# Altium footprint library PcbLib1.PcbLib: 74 footprints (part 2 of 5)
Each footprint in its own frame and in the unit in brackets; x right, y up, seen from the top. Pads: shape width x height; smd on the part's side, far side on the other; paste and mask are expansions set on the pad; w line width, h text height; cw(c..) or ccw(c..) is an arc to the next point about the centre after c.
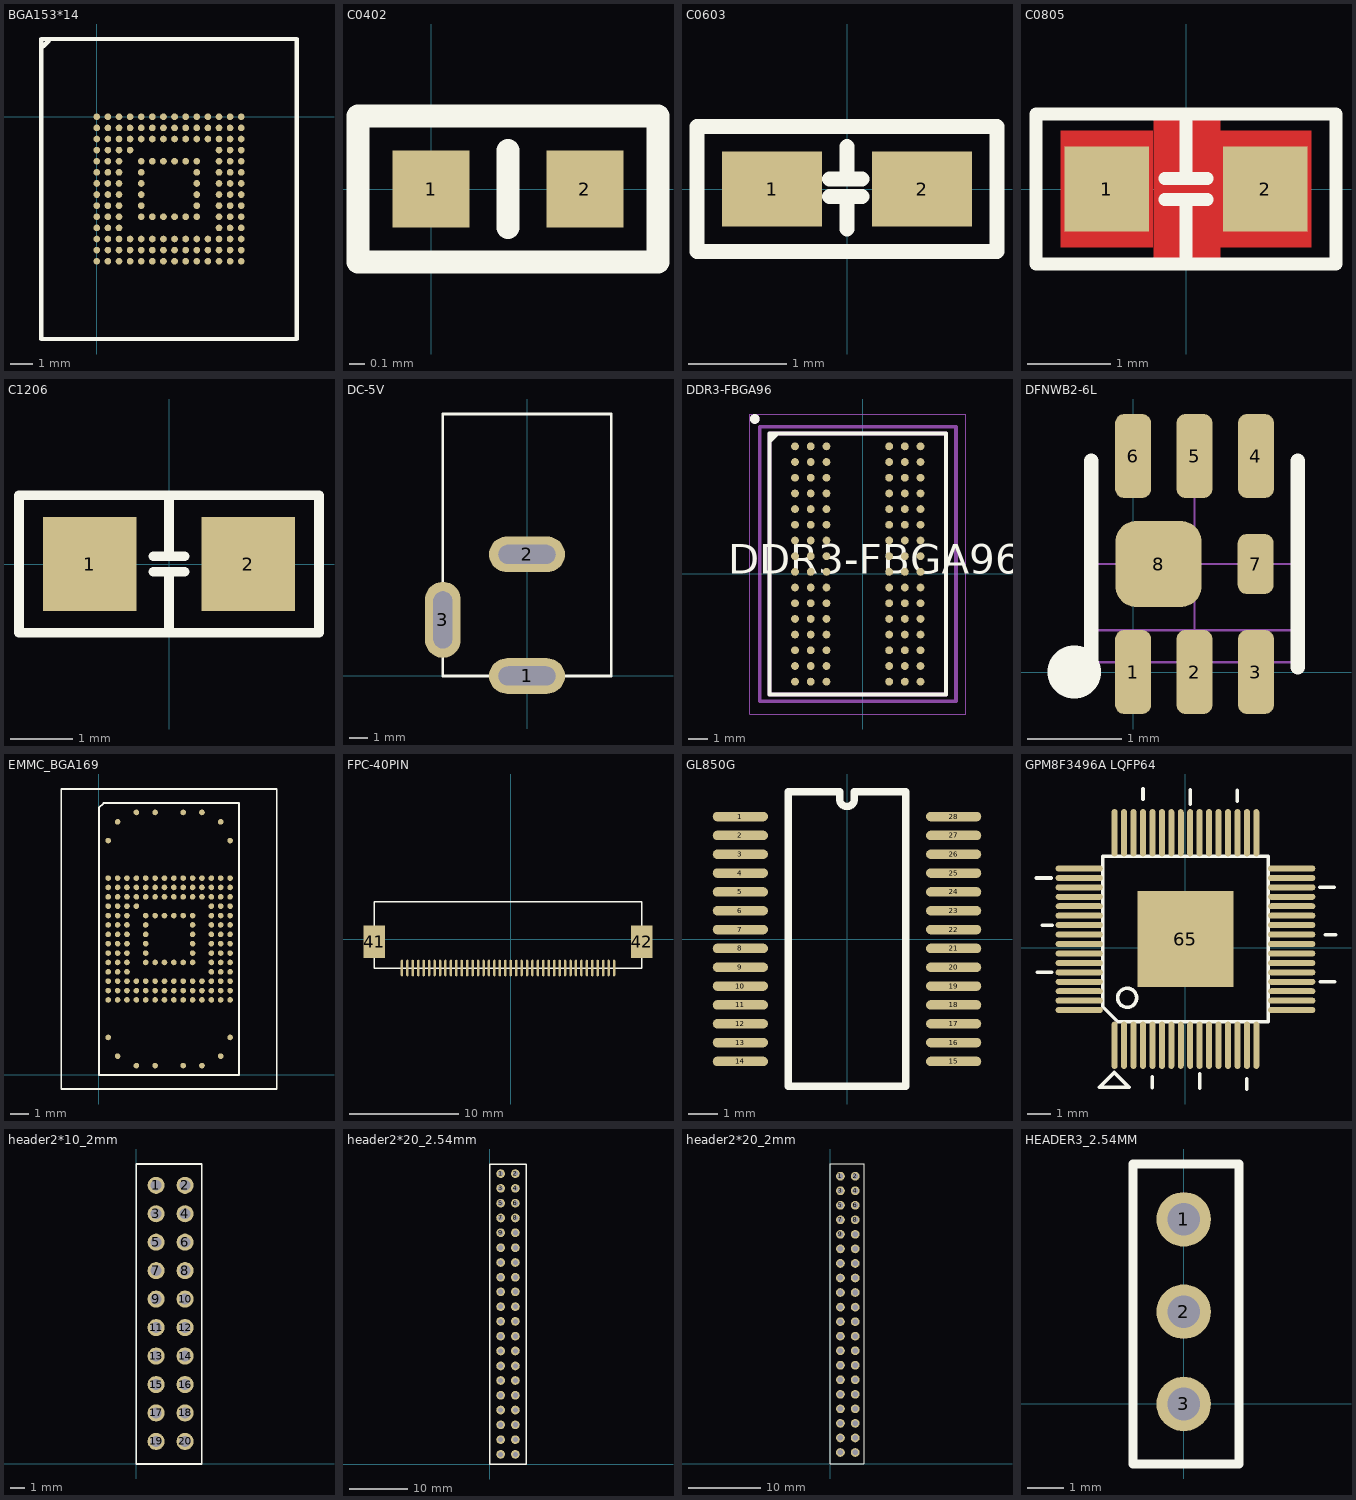
[diagram p1: the footprints below, top view; thin cyan lines are the x and y axes]

## BGA153*14 [mm]
pads (153):
  round 0.3 smd: A1(0,0) A2(0.5,0) A3(1,0) A4(1.5,0) A5(2,0) A6(2.5,0) A7(3,0) A8(3.5,0) A9(4,0) A10(4.5,0) A11(5,0) A12(5.5,0) A13(6,0) A14(6.5,0) B1(0,-0.5) B2(0.5,-0.5) B3(1,-0.5) B4(1.5,-0.5) B5(2,-0.5) B6(2.5,-0.5) B7(3,-0.5) B8(3.5,-0.5) B9(4,-0.5) B10(4.5,-0.5) B11(5,-0.5) B12(5.5,-0.5) B13(6,-0.5) B14(6.5,-0.5) C1(0,-1) C2(0.5,-1) C3(1,-1) C4(1.5,-1) C5(2,-1) C6(2.5,-1) C7(3,-1) C8(3.5,-1) C9(4,-1) C10(4.5,-1) C11(5,-1) C12(5.5,-1) C13(6,-1) C14(6.5,-1) D1(0,-1.5) D2(0.5,-1.5) D3(1,-1.5) D4(1.5,-1.5) D12(5.5,-1.5) D13(6,-1.5) D14(6.5,-1.5) E1(0,-2) E2(0.5,-2) E3(1,-2) E5(2,-2) E6(2.5,-2) E7(3,-2) E8(3.5,-2) E9(4,-2) E10(4.5,-2) E12(5.5,-2) E13(6,-2) E14(6.5,-2) F1(0,-2.5) F2(0.5,-2.5) F3(1,-2.5) F5(2,-2.5) F10(4.5,-2.5) F12(5.5,-2.5) F13(6,-2.5) F14(6.5,-2.5) G1(0,-3) G2(0.5,-3) G3(1,-3) G5(2,-3) G10(4.5,-3) G12(5.5,-3) G13(6,-3) G14(6.5,-3) H1(0,-3.5) H2(0.5,-3.5) H3(1,-3.5) H5(2,-3.5) H10(4.5,-3.5) H12(5.5,-3.5) H13(6,-3.5) H14(6.5,-3.5) J1(0,-4) J2(0.5,-4) J3(1,-4) J5(2,-4) J10(4.5,-4) J12(5.5,-4) J13(6,-4) J14(6.5,-4) K1(0,-4.5) K2(0.5,-4.5) K3(1,-4.5) K5(2,-4.5) K6(2.5,-4.5) K7(3,-4.5) K8(3.5,-4.5) K9(4,-4.5) K10(4.5,-4.5) K12(5.5,-4.5) K13(6,-4.5) K14(6.5,-4.5) L1(0,-5) L2(0.5,-5) L3(1,-5) L12(5.5,-5) L13(6,-5) L14(6.5,-5) M1(0,-5.5) M2(0.5,-5.5) M3(1,-5.5) M4(1.5,-5.5) M5(2,-5.5) M6(2.5,-5.5) M7(3,-5.5) M8(3.5,-5.5) M9(4,-5.5) M10(4.5,-5.5) M11(5,-5.5) M12(5.5,-5.5) M13(6,-5.5) M14(6.5,-5.5) N1(0,-6) N2(0.5,-6) N3(1,-6) N4(1.5,-6) N5(2,-6) N6(2.5,-6) N7(3,-6) N8(3.5,-6) N9(4,-6) N10(4.5,-6) N11(5,-6) N12(5.5,-6) N13(6,-6) N14(6.5,-6) P1(0,-6.5) P2(0.5,-6.5) P3(1,-6.5) P4(1.5,-6.5) P5(2,-6.5) P6(2.5,-6.5) P7(3,-6.5) P8(3.5,-6.5) P9(4,-6.5) P10(4.5,-6.5) P11(5,-6.5) P12(5.5,-6.5) P13(6,-6.5) P14(6.5,-6.5)
Top Overlay:
  lines w0.2: -2.5,-10 -2.5,3.5 ; -2.5,-10 9,-10 9,3.5 -2.5,3.5 ; -2.413,3.175 -2.163,3.425

## C0402 [mil] "CAP"
pads (2):
  rect 20x20 smd: 1(0,0) 2(40,0)
Top Overlay:
  lines w6: 20,-10 20,10 ; -19,-19 59,-19 59,19 -19,19 -19,-19

## C0603 [mil]
pads (2):
  rect 40x30 smd: 1(-30,0) 2(30,0)
Top Overlay:
  lines w6: -7,-3 6,-3 ; -7,4 6,4 ; 0,-16 0,-3 ; 0,4 0,17 ; -60,-25 60,-25 60,25 -60,25 -60,-25

## C0805 [mil]
pads (2):
  rect 40x40 smd: 1(-37.4,0) 2(37.4,0)
Top Layer:
  region: -59.06,27.56 -15.75,27.56 -15.75,-27.56 -59.06,-27.56
  region: 59.06,-27.56 15.75,-27.56 15.75,27.56 59.06,27.56
  pour cut-out: -15.35,34.65 -15.35,-33.46 16.14,-33.46 16.14,34.65
Top Overlay:
  lines w6: -10,-5 10,-5 ; -10,5 10,5 ; 0,-35 0,-5 ; 0,5 0,35 ; -70.87,-35.43 70.87,-35.43 70.87,35.43 -70.87,35.43 -70.87,-35.43

## C1206 [mil]
pads (2):
  rect 59x59 smd: 1(-50,0) 2(50,0)
Top Overlay:
  lines w6: -10,-5 10,-5 ; -10,5 10,5 ; 0,-40 0,-5 ; 0,5 0,40 ; -94.49,-43.31 94.49,-43.31 94.49,43.31 -94.49,43.31 -94.49,-43.31

## DC-5V [mil]
pads (3):
  oval 160x75 hole 40 slot 120 at 0 deg: 1(0,0) 2(0,255.91)
  oval 75x160 hole 40 slot 120 at 90 deg: 3(-177.17,118.11)
Top Overlay:
  lines w6: -177.17,0 -177.17,551.18 177.17,551.18 177.17,0 -177.17,0

## DDR3-FBGA96 [mm]
pads (96):
  round 0.4 smd: A1(-3.454,6.508) A2(-2.654,6.508) A3(-1.854,6.508) A7(1.346,6.508) A8(2.146,6.508) A9(2.946,6.508) B1(-3.454,5.708) B2(-2.654,5.708) B3(-1.854,5.708) B7(1.346,5.708) B8(2.146,5.708) B9(2.946,5.708) C1(-3.454,4.908) C2(-2.654,4.908) C3(-1.854,4.908) C7(1.346,4.908) C8(2.146,4.908) C9(2.946,4.908) D1(-3.454,4.108) D2(-2.654,4.108) D3(-1.854,4.108) D7(1.346,4.108) D8(2.146,4.108) D9(2.946,4.108) E1(-3.454,3.308) E2(-2.654,3.308) E3(-1.854,3.308) E7(1.346,3.308) E8(2.146,3.308) E9(2.946,3.308) F1(-3.454,2.508) F2(-2.654,2.508) F3(-1.854,2.508) F7(1.346,2.508) F8(2.146,2.508) F9(2.946,2.508) G1(-3.454,1.708) G2(-2.654,1.708) G3(-1.854,1.708) G7(1.346,1.708) G8(2.146,1.708) G9(2.946,1.708) H1(-3.454,0.908) H2(-2.654,0.908) H3(-1.854,0.908) H7(1.346,0.908) H8(2.146,0.908) H9(2.946,0.908) J1(-3.454,0.108) J2(-2.654,0.108) J3(-1.854,0.108) J7(1.346,0.108) J8(2.146,0.108) J9(2.946,0.108) K1(-3.454,-0.692) K2(-2.654,-0.692) K3(-1.854,-0.692) K7(1.346,-0.692) K8(2.146,-0.692) K9(2.946,-0.692) L1(-3.454,-1.492) L2(-2.654,-1.492) L3(-1.854,-1.492) L7(1.346,-1.492) L8(2.146,-1.492) L9(2.946,-1.492) M1(-3.454,-2.292) M2(-2.654,-2.292) M3(-1.854,-2.292) M7(1.346,-2.292) M8(2.146,-2.292) M9(2.946,-2.292) N1(-3.454,-3.092) N2(-2.654,-3.092) N3(-1.854,-3.092) N7(1.346,-3.092) N8(2.146,-3.092) N9(2.946,-3.092) P1(-3.454,-3.892) P2(-2.654,-3.892) P3(-1.854,-3.892) P7(1.346,-3.892) P8(2.146,-3.892) P9(2.946,-3.892) R1(-3.454,-4.692) R2(-2.654,-4.692) R3(-1.854,-4.692) R7(1.346,-4.692) R8(2.146,-4.692) R9(2.946,-4.692) T1(-3.454,-5.492) T2(-2.654,-5.492) T3(-1.854,-5.492) T7(1.346,-5.492) T8(2.146,-5.492) T9(2.946,-5.492)
Top Overlay:
  circle w0.25: c-5.504,7.908 r0.125
  lines w0.2: -4.754,6.758 -4.354,7.158 ; -4.754,6.958 -4.554,7.158 ; -4.754,-6.142 -4.754,7.158 4.246,7.158 4.246,-6.142 -4.754,-6.142
  text "DDR3-FBGA96" at -6.854,0.008 h1.5
Mechanical 7:
  circle w0.25: c-5.504,7.908 r0.125
  lines w0.2: -4.754,6.758 -4.354,7.158 ; -4.754,6.958 -4.554,7.158 ; -4.754,-6.142 -4.754,7.158 4.246,7.158 4.246,-6.142 -4.754,-6.142
  text "DDR3-FBGA96" at -6.854,-7.842 h1.5
Mechanical 8:
  text "D8" at 1.826,3.908 h0.4
  text "A9" at 2.626,6.308 h0.4
  text "B9" at 2.626,5.508 h0.4
  text "B3" at -2.174,5.508 h0.4
  text "B1" at -3.774,5.508 h0.4
  text "D1" at -3.774,3.908 h0.4
  text "E2" at -2.974,3.108 h0.4
  text "E1" at -3.774,3.108 h0.4
  text "J8" at 1.826,-0.092 h0.4
  text "F9" at 2.626,2.308 h0.4
  text "G9" at 2.626,1.508 h0.4
  text "J2" at -2.974,-0.092 h0.4
  text "G8" at 1.826,1.508 h0.4
  text "E8" at 1.826,3.108 h0.4
  text "G1" at -3.774,1.508 h0.4
  text "M9" at 2.626,-2.492 h0.4
  text "P9" at 2.626,-4.092 h0.4
  text "T1" at -3.774,-5.692 h0.4
  text "P1" at -3.774,-4.092 h0.4
  text "M1" at -3.774,-2.492 h0.4
  text "T9" at 2.626,-5.692 h0.4
  text "A7" at 1.026,6.308 h0.4
  text "A2" at -2.974,6.308 h0.4
  text "C8" at 1.826,4.708 h0.4
  text "F8" at 1.826,2.308 h0.4
  text "F7" at 1.026,2.308 h0.4
  text "D7" at 1.026,3.908 h0.4
  text "C2" at -2.974,4.708 h0.4
  text "F2" at -2.974,2.308 h0.4
  text "H7" at 1.026,0.708 h0.4
  text "K7" at 1.026,-0.892 h0.4
  text "E3" at -2.174,3.108 h0.4
  text "A3" at -2.174,6.308 h0.4
  text "G2" at -2.974,1.508 h0.4
  text "C3" at -2.174,4.708 h0.4
  text "H8" at 1.826,0.708 h0.4
  text "H3" at -2.174,0.708 h0.4
  text "B8" at 1.826,5.508 h0.4
  text "C7" at 1.026,4.708 h0.4
  text "B7" at 1.026,5.508 h0.4
  text "F3" at -2.174,2.308 h0.4
  text "G3" at -2.174,1.508 h0.4
  text "D3" at -2.174,3.908 h0.4
  text "E7" at 1.026,3.108 h0.4
  text "J7" at 1.026,-0.092 h0.4
  text "N3" at -2.174,-3.292 h0.4
  text "P8" at 1.826,-4.092 h0.4
  text "M7" at 1.026,-2.492 h0.4
  text "T8" at 1.826,-5.692 h0.4
  text "R7" at 1.026,-4.892 h0.4
  text "P3" at -2.174,-4.092 h0.4
  text "R8" at 1.826,-4.892 h0.4
  text "T7" at 1.026,-5.692 h0.4
  text "P2" at -2.974,-4.092 h0.4
  text "L7" at 1.026,-1.692 h0.4
  text "N2" at -2.974,-3.292 h0.4
  text "R2" at -2.974,-4.892 h0.4
  text "R3" at -2.174,-4.892 h0.4
  text "T3" at -2.174,-5.692 h0.4
  text "P7" at 1.026,-4.092 h0.4
  text "N7" at 1.026,-3.292 h0.4
  text "L3" at -2.174,-1.692 h0.4
  text "K3" at -2.174,-0.892 h0.4
  text "J3" at -2.174,-0.092 h0.4
  text "M2" at -2.974,-2.492 h0.4
  text "N8" at 1.826,-3.292 h0.4
  text "M3" at -2.174,-2.492 h0.4
  text "T2" at -2.974,-5.692 h0.4
  text "M8" at 1.826,-2.492 h0.4
  text "H1" at -3.774,0.708 h0.4
  text "L8" at 1.826,-1.692 h0.4
  text "L9" at 2.626,-1.692 h0.4
  text "J9" at 2.626,-0.092 h0.4
  text "L1" at -3.774,-1.692 h0.4
  text "J1" at -3.774,-0.092 h0.4
  text "K1" at -3.774,-0.892 h0.4
  text "L2" at -2.974,-1.692 h0.4
  text "K9" at 2.626,-0.892 h0.4
  text "A8" at 1.826,6.308 h0.4
  text "D9" at 2.626,3.908 h0.4
  text "C9" at 2.626,4.708 h0.4
  text "C1" at -3.774,4.708 h0.4
  text "A1" at -3.774,6.308 h0.4
  text "B2" at -2.974,5.508 h0.4
  text "D2" at -2.974,3.908 h0.4
  text "H9" at 2.626,0.708 h0.4
  text "E9" at 2.626,3.108 h0.4
  text "G7" at 1.026,1.508 h0.4
  text "K2" at -2.974,-0.892 h0.4
  text "K8" at 1.826,-0.892 h0.4
  text "H2" at -2.974,0.708 h0.4
  text "F1" at -3.774,2.308 h0.4
  text "N9" at 2.626,-3.292 h0.4
  text "R9" at 2.626,-4.892 h0.4
  text "N1" at -3.774,-3.292 h0.4
  text "R1" at -3.774,-4.892 h0.4
Mechanical 9:
  lines w0.2: -4.754,6.758 -4.354,7.158 ; -4.754,6.958 -4.554,7.158 ; -5.254,-6.492 4.746,-6.492 4.746,7.508 -5.254,7.508 -5.254,-6.492 ; -4.754,-6.142 -4.754,7.158 4.246,7.158 4.246,-6.142 -4.754,-6.142
  text "RichardLC" at -1.694,0.308 h0.4
Mechanical 10:
  lines w0.025: -5.754,-7.142 -5.754,8.158 5.246,8.158 5.246,-7.142 -5.754,-7.142
Mechanical 11:
  lines w0.025: -4.754,-6.142 -4.754,7.158 4.246,7.158 4.246,-6.142 -4.754,-6.142

## DFNWB2-6L [mil]
pads (8):
  rrect50% 15x35 smd: 1(0,0) 2(25.59,0) 3(51.18,0) 4(51.18,90) 5(25.59,90) 6(0,90)
  rrect50% 15x25 smd: 7(51.08,45)
  rrect50% 36x36 smd: 8(10.59,45)
Top Overlay:
  circle w22: c-24.51,0 r0.1
  lines w5.91: -17.41,2 -17.41,88 ; 68.59,2 68.59,88
Mechanical 15:
  lines w1: -17.41,4.13 68.59,4.13 ; -17.41,17.44 68.59,17.44 ; -17.41,45 68.59,45 ; 25.59,3.05 25.59,87.17

## EMMC_BGA169 [mm]
pads (169):
  round 0.3 smd: A4(2.008,14) A6(3.008,14) A9(4.508,14) A11(5.508,14) AA1(0.508,4) AA2(1.008,4) AA3(1.508,4) AA4(2.008,4) AA5(2.508,4) AA6(3.008,4) AA7(3.508,4) AA8(4.008,4) AA9(4.508,4) AA10(5.008,4) AA11(5.508,4) AA12(6.008,4) AA13(6.508,4) AA14(7.008,4) AE1(0.508,2) AE14(7.008,2) AG2(1.008,1) AG13(6.508,1) AH4(2.008,0.5) AH6(3.008,0.5) AH9(4.508,0.5) AH11(5.508,0.5) B2(1.008,13.5) B13(6.508,13.5) D1(0.508,12.5) D14(7.008,12.5) H1(0.508,10.5) H2(1.008,10.5) H3(1.508,10.5) H4(2.008,10.5) H5(2.508,10.5) H6(3.008,10.5) H7(3.508,10.5) H8(4.008,10.5) H9(4.508,10.5) H10(5.008,10.5) H11(5.508,10.5) H12(6.008,10.5) H13(6.508,10.5) H14(7.008,10.5) J1(0.508,10) J2(1.008,10) J3(1.508,10) J4(2.008,10) J5(2.508,10) J6(3.008,10) J7(3.508,10) J8(4.008,10) J9(4.508,10) J10(5.008,10) J11(5.508,10) J12(6.008,10) J13(6.508,10) J14(7.008,10) K1(0.508,9.5) K2(1.008,9.5) K3(1.508,9.5) K4(2.008,9.5) K5(2.508,9.5) K6(3.008,9.5) K7(3.508,9.5) K8(4.008,9.5) K9(4.508,9.5) K10(5.008,9.5) K11(5.508,9.5) K12(6.008,9.5) K13(6.508,9.5) K14(7.008,9.5) L1(0.508,9) L2(1.008,9) L3(1.508,9) L4(2.008,9) L12(6.008,9) L13(6.508,9) L14(7.008,9) M1(0.508,8.5) M2(1.008,8.5) M3(1.508,8.5) M5(2.508,8.5) M6(3.008,8.5) M7(3.508,8.5) M8(4.008,8.5) M9(4.508,8.5) M10(5.008,8.5) M12(6.008,8.5) M13(6.508,8.5) M14(7.008,8.5) N1(0.508,8) N2(1.008,8) N3(1.508,8) N5(2.508,8) N10(5.008,8) N12(6.008,8) N13(6.508,8) N14(7.008,8) P1(0.508,7.5) P2(1.008,7.5) P3(1.508,7.5) P5(2.508,7.5) P10(5.008,7.5) P12(6.008,7.5) P13(6.508,7.5) P14(7.008,7.5) R1(0.508,7) R2(1.008,7) R3(1.508,7) R5(2.508,7) R10(5.008,7) R12(6.008,7) R13(6.508,7) R14(7.008,7) T1(0.508,6.5) T2(1.008,6.5) T3(1.508,6.5) T5(2.508,6.5) T10(5.008,6.5) T12(6.008,6.5) T13(6.508,6.5) T14(7.008,6.5) U1(0.508,6) U2(1.008,6) U3(1.508,6) U5(2.508,6) U6(3.008,6) U7(3.508,6) U8(4.008,6) U9(4.508,6) U10(5.008,6) U12(6.008,6) U13(6.508,6) U14(7.008,6) V1(0.508,5.5) V2(1.008,5.5) V3(1.508,5.5) V12(6.008,5.5) V13(6.508,5.5) V14(7.008,5.5) W1(0.508,5) W2(1.008,5) W3(1.508,5) W4(2.008,5) W5(2.508,5) W6(3.008,5) W7(3.508,5) W8(4.008,5) W9(4.508,5) W10(5.008,5) W11(5.508,5) W12(6.008,5) W13(6.508,5) W14(7.008,5) Y1(0.508,4.5) Y2(1.008,4.5) Y3(1.508,4.5) Y4(2.008,4.5) Y5(2.508,4.5) Y6(3.008,4.5) Y7(3.508,4.5) Y8(4.008,4.5) Y9(4.508,4.5) Y10(5.008,4.5) Y11(5.508,4.5) Y12(6.008,4.5) Y13(6.508,4.5) Y14(7.008,4.5)
Top Overlay:
  lines w0.1: -2,-0.75 9.5,-0.75 9.5,15.25 -2,15.25 -2,-0.75 ; 0.008,0 0.008,14.25 0.258,14.5 7.493,14.5 7.493,0 0.008,0

## FPC-40PIN [mil]
pads (42):
  oval 9x60 smd: 1(-393.7,-105) 2(-374.02,-105) 3(-354.33,-105) 4(-334.65,-105) 5(-314.96,-105) 6(-295.28,-105) 7(-275.59,-105) 8(-255.91,-105) 9(-236.22,-105) 10(-216.54,-105) 11(-196.85,-105) 12(-177.17,-105) 13(-157.48,-105) 14(-137.8,-105) 15(-118.11,-105) 16(-98.43,-105) 17(-78.74,-105) 18(-59.06,-105) 19(-39.37,-105) 20(-19.69,-105) 21(0,-105) 22(19.68,-105) 23(39.37,-105) 24(59.06,-105) 25(78.74,-105) 26(98.43,-105) 27(118.11,-105) 28(137.8,-105) 29(157.48,-105) 30(177.17,-105) 31(196.85,-105) 32(216.54,-105) 33(236.22,-105) 34(255.91,-105) 35(275.59,-105) 36(295.28,-105) 37(314.96,-105) 38(334.65,-105) 39(354.33,-105) 40(374.02,-105)
  rect 78.74x118.11 smd: 41(-493.7,-10) 42(474.02,-10)
Top Overlay:
  lines w5: -493.7,-105 474.02,-105 474.02,135 -493.7,135 -493.7,-105

## GL850G [mil] "SSOP-28"
pads (28):
  oval 75x13 smd: 1(-145,166.4) 2(-145,140.8) 3(-145,115.2) 4(-145,89.6) 5(-145,64) 6(-145,38.4) 7(-145,12.8) 8(-145,-12.8) 9(-145,-38.4) 10(-145,-64) 11(-145,-89.6) 12(-145,-115.2) 13(-145,-140.8) 14(-145,-166.4) 15(145,-166.4) 16(145,-140.8) 17(145,-115.2) 18(145,-89.6) 19(145,-64) 20(145,-38.4) 21(145,-12.8) 22(145,12.8) 23(145,38.4) 24(145,64) 25(145,89.6) 26(145,115.2) 27(145,140.8) 28(145,166.4)
Top Overlay:
  lines w10: -80,-200 -80,200 -10,200 -10,190 ccw(c0,190) 10,190 10,200 80,200 80,-200 -80,-200

## GPM8F3496A LQFP64 [mm]
pads (65):
  oval 0.254x2 smd: 1(-3,-4.119) 2(-2.6,-4.119) 3(-2.2,-4.119) 4(-1.8,-4.119) 5(-1.4,-4.119) 6(-1,-4.119) 7(-0.6,-4.119) 8(-0.2,-4.119) 9(0.2,-4.119) 10(0.6,-4.119) 11(1,-4.119) 12(1.4,-4.119) 13(1.8,-4.119) 14(2.2,-4.119) 15(2.6,-4.119) 16(3,-4.119) 33(3,4.881) 34(2.6,4.881) 35(2.2,4.881) 36(1.8,4.881) 37(1.4,4.881) 38(1,4.881) 39(0.6,4.881) 40(0.2,4.881) 41(-0.2,4.881) 42(-0.6,4.881) 43(-1,4.881) 44(-1.4,4.881) 45(-1.8,4.881) 46(-2.2,4.881) 47(-2.6,4.881) 48(-3,4.881)
  oval 2x0.254 smd: 17(4.5,-2.631) 18(4.5,-2.231) 19(4.5,-1.831) 20(4.5,-1.431) 21(4.5,-1.031) 22(4.5,-0.631) 23(4.5,-0.231) 24(4.5,0.169) 25(4.5,0.569) 26(4.5,0.969) 27(4.5,1.369) 28(4.5,1.769) 29(4.5,2.169) 30(4.5,2.569) 31(4.5,2.969) 32(4.5,3.369) 49(-4.5,3.369) 50(-4.5,2.969) 51(-4.5,2.569) 52(-4.5,2.169) 53(-4.5,1.769) 54(-4.5,1.369) 55(-4.5,0.969) 56(-4.5,0.569) 57(-4.5,0.169) 58(-4.5,-0.231) 59(-4.5,-0.631) 60(-4.5,-1.031) 61(-4.5,-1.431) 62(-4.5,-1.831) 63(-4.5,-2.231) 64(-4.5,-2.631)
  rect 4.06x4.06 smd: 65(0,0.381)
Top Overlay:
  circle w0.152: c-2.471,-2.11 r0.402
  lines w0.152: -6.309,2.966 -5.697,2.966 ; -6.274,-1.034 -5.662,-1.034 ; -6.071,0.966 -5.636,0.966 ; -1.8,6.299 -1.8,6.734 ; -1.4,-5.92 -1.4,-5.461 ; 0.2,6.096 0.2,6.708 ; 0.6,-5.946 0.6,-5.334 ; 2.2,6.223 2.2,6.682 ; 2.6,-5.972 2.6,-5.537 ; 5.68,2.569 6.292,2.569 ; 5.715,-1.431 6.327,-1.431 ; 5.918,0.569 6.353,0.569 ; -3.651,-5.905 -2.381,-5.905 -3.016,-5.27 -3.651,-5.905 ; -3.5,-2.484 -2.865,-3.119 3.5,-3.119 3.5,3.881 -3.5,3.881 -3.5,-2.484

## header2*10_2mm [mm] "header"
pads (20):
  round 1.2 hole 0.762: 1(1.396,19.586) 2(3.429,19.586) 3(1.396,17.586) 4(3.429,17.586) 5(1.396,15.586) 6(3.429,15.586) 7(1.396,13.586) 8(3.429,13.586) 9(1.396,11.586) 10(3.429,11.586) 11(1.396,9.586) 12(3.429,9.586) 13(1.396,7.586) 14(3.429,7.586) 15(1.396,5.586) 16(3.429,5.586) 17(1.396,3.586) 18(3.429,3.586) 19(1.396,1.586) 20(3.429,1.586)
Top Overlay:
  lines w0.127: 0,0 4.6,0 4.6,21.082 0,21.082 0,0

## header2*20_2.54mm [mm]
pads (40):
  round 1.5 hole 0.9: 1(1.905,49.911) 2(4.445,49.911) 3(1.905,47.371) 4(4.445,47.371) 5(1.905,44.831) 6(4.445,44.831) 7(1.905,42.291) 8(4.445,42.291) 9(1.905,39.751) 10(4.445,39.751) 11(1.905,37.175) 12(4.445,37.175) 13(1.905,34.635) 14(4.445,34.635) 15(1.905,32.095) 16(4.445,32.095) 17(1.905,29.591) 18(4.445,29.591) 19(1.905,27.051) 20(4.445,27.051) 21(1.905,24.511) 22(4.445,24.511) 23(1.905,21.971) 24(4.445,21.971) 25(1.905,19.431) 26(4.445,19.431) 27(1.905,16.855) 28(4.445,16.855) 29(1.905,14.351) 30(4.445,14.351) 31(1.905,11.811) 32(4.445,11.811) 33(1.905,9.271) 34(4.445,9.271) 35(1.905,6.731) 36(4.445,6.731) 37(1.905,4.191) 38(4.445,4.191) 39(1.905,1.651) 40(4.445,1.651)
Top Overlay:
  lines w0.254: 0,0 0,51.562 6.35,51.562 6.35,0 0,0

## header2*20_2mm [mm]
pads (40):
  round 1.2 hole 0.762: 1(1.397,39.594) 2(3.43,39.594) 3(1.397,37.594) 4(3.43,37.594) 5(1.397,35.594) 6(3.43,35.594) 7(1.397,33.594) 8(3.43,33.594) 9(1.397,31.594) 10(3.43,31.594) 11(1.397,29.594) 12(3.43,29.594) 13(1.397,27.594) 14(3.43,27.594) 15(1.397,25.594) 16(3.43,25.594) 17(1.397,23.594) 18(3.43,23.594) 19(1.397,21.59) 20(3.43,21.59) 21(1.396,19.586) 22(3.429,19.586) 23(1.396,17.586) 24(3.429,17.586) 25(1.396,15.586) 26(3.429,15.586) 27(1.396,13.586) 28(3.429,13.586) 29(1.396,11.586) 30(3.429,11.586) 31(1.396,9.586) 32(3.429,9.586) 33(1.396,7.586) 34(3.429,7.586) 35(1.396,5.586) 36(3.429,5.586) 37(1.396,3.586) 38(3.429,3.586) 39(1.396,1.586) 40(3.429,1.586)
Top Overlay:
  lines w0.127: 0,17.973 0,41.275 1.15,41.275 3.45,41.275 4.6,41.275 4.6,17.973 ; 0,21.082 0,0 4.6,0 4.6,21.082

## HEADER3_2.54MM [mm]
pads (3):
  round 1.5 hole 0.9: 1(0,5.08) 2(0,2.54) 3(0,0)
Top Overlay:
  lines w0.254: -1.397,-1.651 -1.397,6.604 1.524,6.604 1.524,-1.651 -1.397,-1.651